# EAGLE library part ADS7835_DGK_8 (library TIAnalog)
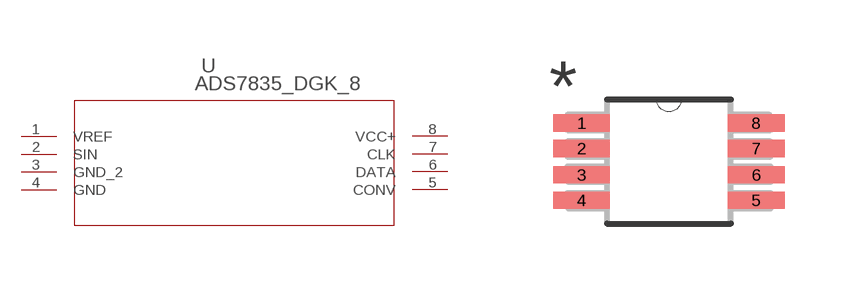
[diagram p0: symbol with the pads of DGK8; footprint DGK8]

Designator prefix U

## ADS7835_DGK_8 (DATASHEETURL: http://www.ti.com/lit/gpn/ADS7835; DESCRIPTION: 12-Bit, High-Speed, Low Power Sampling Analog-to-Digital Converter; FAMILY_NAME: PRECISION ADC (<=10MSPS); GENERIC_PART_NUMBER: ADS7835; INDUSTRY_STD_PKG_TYPE: MSOP; MANUFACTURER: Texas Instruments; PACKAGE_DESIGNATOR: DGK; PIN_COUNT: 8)  [DGK8]
1  VREF  out
2  SIN  in
3  GND_2  pwr
4  GND  pwr
5  CONV  in
6  DATA  out
7  CLK  in
8  VCC+  pwr

## Footprint DGK8 (pad centres in mm)
smd 1.422 x 0.432: 1 -2.184,0.965; 2 -2.184,0.33; 3 -2.184,-0.33; 4 -2.184,-0.965; 5 2.184,-0.965; 6 2.184,-0.33; 7 2.184,0.33; 8 2.184,0.965